# EAGLE library part IC-NX3DV2567GU (library nRF9160-IC)
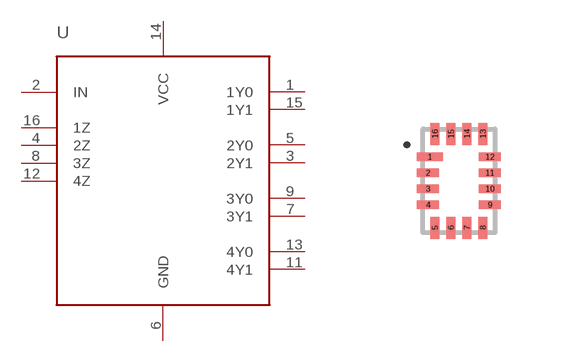
[diagram p3: symbol with the pads of QFN40P260X180X50-16N; footprint QFN40P260X180X50-16N]

Designator prefix U

## IC-NX3DV2567GU (DESC: IC ANLG SWITCH 4PDT 16XQFN; DIGIKEYPN: 568-5206-1-ND; MPN: NX3DV2567GU,115; PROD_ID: IC-15414)  [QFN40P260X180X50-16N]
1  1Y0
2  IN
3  2Y1
4  2Z
5  2Y0
6  GND  pwr
7  3Y1
8  3Z
9  3Y0
11  4Y1
12  4Z
13  4Y0
14  VCC  pwr
15  1Y1
16  1Z

## Footprint QFN40P260X180X50-16N (pad centres in mm)
smd 0.65 x 0.22: 1 -0.725,0.6
smd 0.55 x 0.22: 2 -0.775,0.2; 3 -0.775,-0.2; 4 -0.775,-0.6; 9 0.775,-0.6; 10 0.775,-0.2; 11 0.775,0.2; 12 0.775,0.6
smd 0.22 x 0.55: 5 -0.6,-1.175; 6 -0.2,-1.175; 7 0.2,-1.175; 8 0.6,-1.175; 13 0.6,1.175; 14 0.2,1.175; 15 -0.2,1.175; 16 -0.6,1.175